# EAGLE library part DMMT3906W (library _mtvl.transistors)
K4B
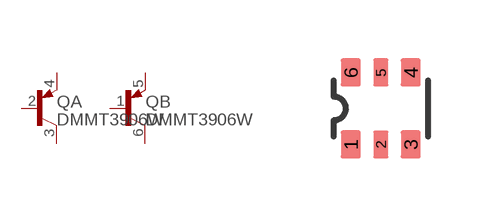
[diagram p6: symbol with the pads of SOT363; footprint SOT363]

Designator prefix Q; gates A=PNP B=PNP

## DMMT3906W  [SOT363]
1  B:B  pas
2  A:B  pas
3  A:C  pas
4  A:E  pas
5  B:E  pas
6  B:C  pas

## Footprint SOT363 (pad centres in mm)
smd 0.5 x 0.7: 1 -0.75,-0.9; 3 0.75,-0.9; 4 0.75,0.9; 6 -0.75,0.9
smd 0.38 x 0.7: 2 0,-0.9; 5 0,0.9